# Altium footprint library Modules.PcbLib: 14 footprints (part 2 of 6)
Each footprint in its own frame and in the unit in brackets; x right, y up, seen from the top. Pads: shape width x height; smd on the part's side, far side on the other; paste and mask are expansions set on the pad; w line width, h text height; cw(c..) or ccw(c..) is an arc to the next point about the centre after c.
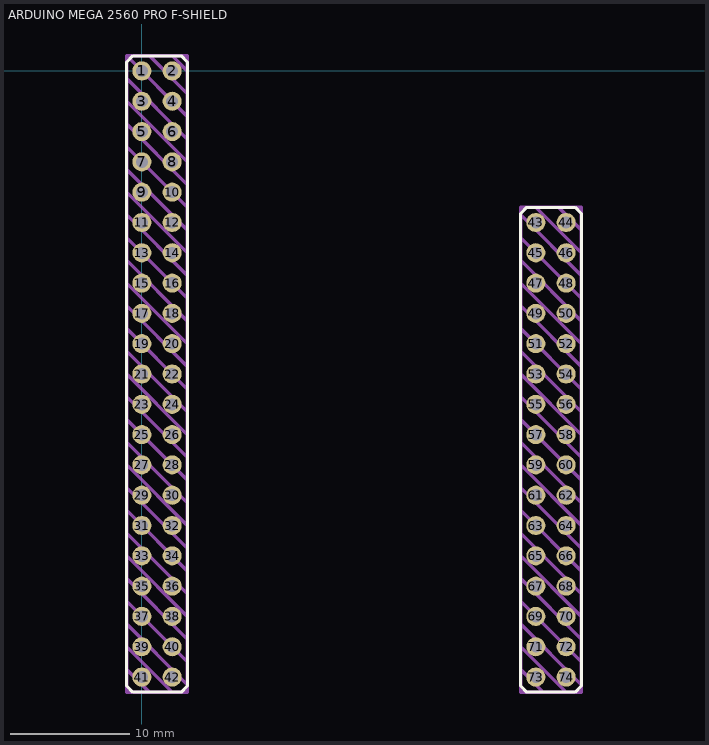
[diagram p1: the footprint, top view; thin cyan lines are the x and y axes]

## ARDUINO MEGA 2560 PRO F-SHIELD [mm]
pads (74):
  round 1.6 hole 1: 1(0,0) 2(2.54,0) 3(0,-2.54) 4(2.54,-2.54) 5(0,-5.08) 6(2.54,-5.08) 7(0,-7.62) 8(2.54,-7.62) 9(0,-10.16) 10(2.54,-10.16) 11(0,-12.7) 12(2.54,-12.7) 13(0,-15.24) 14(2.54,-15.24) 15(0,-17.78) 16(2.54,-17.78) 17(0,-20.32) 18(2.54,-20.32) 19(0,-22.86) 20(2.54,-22.86) 21(0,-25.4) 22(2.54,-25.4) 23(0,-27.94) 24(2.54,-27.94) 25(0,-30.48) 26(2.54,-30.48) 27(0,-33.02) 28(2.54,-33.02) 29(0,-35.56) 30(2.54,-35.56) 31(0,-38.1) 32(2.54,-38.1) 33(0,-40.64) 34(2.54,-40.64) 35(0,-43.18) 36(2.54,-43.18) 37(0,-45.72) 38(2.54,-45.72) 39(0,-48.26) 40(2.54,-48.26) 41(0,-50.8) 42(2.54,-50.8) 43(33.02,-12.7) 44(35.56,-12.7) 45(33.02,-15.24) 46(35.56,-15.24) 47(33.02,-17.78) 48(35.56,-17.78) 49(33.02,-20.32) 50(35.56,-20.32) 51(33.02,-22.86) 52(35.56,-22.86) 53(33.02,-25.4) 54(35.56,-25.4) 55(33.02,-27.94) 56(35.56,-27.94) 57(33.02,-30.48) 58(35.56,-30.48) 59(33.02,-33.02) 60(35.56,-33.02) 61(33.02,-35.56) 62(35.56,-35.56) 63(33.02,-38.1) 64(35.56,-38.1) 65(33.02,-40.64) 66(35.56,-40.64) 67(33.02,-43.18) 68(35.56,-43.18) 69(33.02,-45.72) 70(35.56,-45.72) 71(33.02,-48.26) 72(35.56,-48.26) 73(33.02,-50.8) 74(35.56,-50.8)
Top Overlay:
  lines w0.25: -1.27,-51.562 -1.27,0.762 -0.762,1.27 3.302,1.27 3.81,0.762 3.81,-51.562 3.302,-52.07 -0.762,-52.07 -1.27,-51.562 ; 31.75,-51.562 32.258,-52.07 36.322,-52.07 36.83,-51.562 36.83,-11.938 36.322,-11.43 32.258,-11.43 31.75,-11.938 31.75,-51.562
Top Draw:
  lines w0.3: -1.27,-50.165 0.635,-52.07 ; -1.27,-48.26 2.54,-52.07 ; -1.27,-46.355 3.81,-51.435 ; -1.27,-44.45 3.81,-49.53 ; -1.27,-42.545 3.81,-47.625 ; -1.27,-40.64 3.81,-45.72 ; -1.27,-38.735 3.81,-43.815 ; -1.27,-36.83 3.81,-41.91 ; -1.27,-34.925 3.81,-40.005 ; -1.27,-33.02 3.81,-38.1 ; -1.27,-31.115 3.81,-36.195 ; -1.27,-29.21 3.81,-34.29 ; -1.27,-27.305 3.81,-32.385 ; -1.27,-25.4 3.81,-30.48 ; -1.27,-23.495 3.81,-28.575 ; -1.27,-21.59 3.81,-26.67 ; -1.27,-19.685 3.81,-24.765 ; -1.27,-17.78 3.81,-22.86 ; -1.27,-15.875 3.81,-20.955 ; -1.27,-13.97 3.81,-19.05 ; -1.27,-12.065 3.81,-17.145 ; -1.27,-10.16 3.81,-15.24 ; -1.27,-8.255 3.81,-13.335 ; -1.27,-6.35 3.81,-11.43 ; -1.27,-4.445 3.81,-9.525 ; -1.27,-2.54 3.81,-7.62 ; -1.27,-0.635 3.81,-5.715 ; 0.635,1.27 3.81,-1.905 ; 2.54,1.27 3.81,0 ; 3.81,-3.81 -1.27,1.27 ; 31.75,-50.165 33.655,-52.07 ; 31.75,-48.26 35.56,-52.07 ; 31.75,-46.355 36.83,-51.435 ; 31.75,-44.45 36.83,-49.53 ; 31.75,-42.545 36.83,-47.625 ; 31.75,-40.64 36.83,-45.72 ; 31.75,-38.735 36.83,-43.815 ; 31.75,-36.83 36.83,-41.91 ; 31.75,-34.925 36.83,-40.005 ; 31.75,-33.02 36.83,-38.1 ; 31.75,-31.115 36.83,-36.195 ; 31.75,-29.21 36.83,-34.29 ; 31.75,-27.305 36.83,-32.385 ; 31.75,-25.4 36.83,-30.48 ; 31.75,-23.495 36.83,-28.575 ; 31.75,-21.59 36.83,-26.67 ; 31.75,-19.685 36.83,-24.765 ; 31.75,-17.78 36.83,-22.86 ; 31.75,-15.875 36.83,-20.955 ; 31.75,-13.97 36.83,-19.05 ; 31.75,-12.065 36.83,-17.145 ; 33.02,-11.43 36.83,-15.24 ; 34.925,-11.43 36.83,-13.335 ; -1.27,1.27 -1.27,-52.07 3.81,-52.07 3.81,1.27 -1.27,1.27 ; 31.75,-52.07 31.75,-11.43 36.83,-11.43 36.83,-52.07 31.75,-52.07
3D body: height 8, standoff -2.5, extent 2.215,-2.865 2.865,-2.215
3D body "呐劳.000001.01.01.stp": height -2.5, standoff -3, extent -0.325,-51.124 0.325,-50.474
3D body: height 2, standoff 1.95, extent -0.889,-49.656 -0.635,-49.402
3D body: height 8, standoff -2.5, extent 2.215,-5.405 2.865,-4.755
3D body: height 2, standoff 1.95, extent 3.175,-11.557 3.429,-11.303
3D body "呐劳.000001.01.01.stp": height 8.5, standoff 8, extent -0.325,-51.124 0.325,-50.474
3D body: height 8, standoff -2.5, extent 2.215,-13.024 2.865,-12.374
3D body: height 2, standoff 1.95, extent 3.175,-9.017 3.429,-8.762
3D body: height 8, standoff -2.5, extent 2.215,-10.485 2.865,-9.835
3D body "呐劳.000001.01.01.stp": height -2.5, standoff -3, extent 2.215,-0.325 2.865,0.325
3D body: height 8, standoff -2.5, extent 2.215,-0.325 2.865,0.325
3D body: height 2, standoff 1.95, extent 3.175,-1.397 3.429,-1.143
3D body: height 8, standoff -2.5, extent -0.325,-51.124 0.325,-50.474
3D body: height 2, standoff 1.95, extent 3.175,-6.477 3.429,-6.223
3D body "呐劳.000001.01.01.stp": height -2.5, standoff -3, extent 2.215,-5.405 2.865,-4.755
3D body: height 1.95, standoff 0, extent -0.889,-49.657 3.429,-49.402
3D body: height 2, standoff 1.95, extent 3.175,-3.937 3.429,-3.683
3D body: height 8, standoff -2.5, extent 2.215,-7.944 2.865,-7.294
3D body "呐劳.000001.01.01.stp": height -2.5, standoff -3, extent 2.215,-33.344 2.865,-32.694
3D body "呐劳.000001.01.01.stp": height 8.5, standoff 8, extent 2.215,-35.884 2.865,-35.234
3D body: height 2, standoff 1.95, extent 3.175,-31.877 3.429,-31.623
3D body: height 2, standoff 0, extent -1.27,-34.163 3.81,-31.877
3D body: height 1.95, standoff 0, extent -0.889,-19.177 3.429,-18.922
3D body "呐劳.000001.01.01.stp": height 8.5, standoff 8, extent 2.215,-33.344 2.865,-32.694
3D body: height 8, standoff -2.5, extent 2.215,-35.884 2.865,-35.234
3D body "呐劳.000001.01.01.stp": height -2.5, standoff -3, extent 2.215,-30.805 2.865,-30.155
3D body: height 2, standoff 1.95, extent 3.175,-34.417 3.429,-34.162
3D body: height 8, standoff -2.5, extent 2.215,-33.344 2.865,-32.694
3D body: height 8, standoff -2.5, extent -0.325,-20.645 0.325,-19.995
3D body "呐劳.000001.01.01.stp": height -2.5, standoff -3, extent 2.215,-35.884 2.865,-35.234
3D body "呐劳.000001.01.01.stp": height 8.5, standoff 8, extent 2.215,-30.805 2.865,-30.155
3D body "呐劳.000001.01.01.stp": height -2.5, standoff -3, extent -0.325,-20.645 0.325,-19.995
3D body: height 8, standoff -2.5, extent 2.215,-30.805 2.865,-30.155
3D body "呐劳.000001.01.01.stp": height 8.5, standoff 8, extent -0.325,-20.645 0.325,-19.995
3D body: height 2, standoff 1.95, extent 3.175,-29.336 3.429,-29.082
3D body "呐劳.000001.01.01.stp": height -2.5, standoff -3, extent -0.325,-5.405 0.325,-4.755
3D body: height 1.95, standoff 0, extent -0.889,-16.637 3.429,-16.382
3D body "呐劳.000001.01.01.stp": height 8.5, standoff 8, extent -0.325,-7.945 0.325,-7.295
3D body: height 2, standoff 1.95, extent -0.889,-11.557 -0.635,-11.302
3D body "呐劳.000001.01.01.stp": height -2.5, standoff -3, extent -0.325,-13.025 0.325,-12.375
3D body "呐劳.000001.01.01.stp": height -2.5, standoff -3, extent -0.325,-10.485 0.325,-9.835
3D body "呐劳.000001.01.01.stp": height -2.5, standoff -3, extent -0.325,-15.565 0.325,-14.915
3D body "呐劳.000001.01.01.stp": height 8.5, standoff 8, extent -0.325,-0.325 0.325,0.325
3D body: height 8, standoff -2.5, extent -0.325,-13.025 0.325,-12.375
3D body "呐劳.000001.01.01.stp": height 8.5, standoff 8, extent -0.325,-18.105 0.325,-17.455
3D body: height 2, standoff 1.95, extent -0.889,-19.176 -0.635,-18.922
3D body: height 8, standoff -2.5, extent -0.325,-18.105 0.325,-17.455
3D body: height 2, standoff 1.95, extent -0.889,-6.477 -0.635,-6.222
3D body "呐劳.000001.01.01.stp": height 8.5, standoff 8, extent -0.325,-15.565 0.325,-14.915
3D body: height 2, standoff 0, extent -1.27,-18.922 3.81,-16.636
3D body: height 8, standoff -2.5, extent 35.235,-13.025 35.885,-12.375
3D body "呐劳.000001.01.01.stp": height -2.5, standoff -3, extent 35.235,-13.025 35.885,-12.375
3D body "呐劳.000001.01.01.stp": height 8.5, standoff 8, extent -0.325,-10.485 0.325,-9.835
3D body: height 2, standoff 1.95, extent -0.889,-1.397 -0.635,-1.143
3D body: height 8, standoff -2.5, extent -0.325,-15.565 0.325,-14.915
3D body "呐劳.000001.01.01.stp": height 8.5, standoff 8, extent -0.325,-13.025 0.325,-12.375
3D body: height 2, standoff 0, extent -1.27,-16.383 3.81,-14.097
3D body: height 2, standoff 1.95, extent -0.889,-16.637 -0.635,-16.382
3D body "呐劳.000001.01.01.stp": height 8.5, standoff 8, extent -0.325,-2.865 0.325,-2.215
3D body "呐劳.000001.01.01.stp": height 8.5, standoff 8, extent -0.325,-5.405 0.325,-4.755
3D body: height 2, standoff 1.95, extent -0.889,-3.937 -0.635,-3.682
3D body: height 1.95, standoff 0, extent -0.889,-14.097 3.429,-13.842
3D body "呐劳.000001.01.01.stp": height -2.5, standoff -3, extent -0.325,-18.105 0.325,-17.455
3D body: height 2, standoff 1.95, extent -0.889,-9.017 -0.635,-8.762
3D body: height 2, standoff 1.95, extent -0.889,-14.097 -0.635,-13.842
3D body "呐劳.000001.01.01.stp": height -2.5, standoff -3, extent 2.215,-13.024 2.865,-12.374
3D body: height 1.95, standoff 0, extent -0.889,-9.017 3.429,-8.762
3D body: height 1.95, standoff 0, extent -0.889,-6.478 3.429,-6.223
3D body: height 1.95, standoff 0, extent -0.889,-11.558 3.429,-11.303
3D body: height 2, standoff 0, extent -1.27,-6.223 3.81,-3.937
3D body: height 1.95, standoff 0, extent -0.889,-3.938 3.429,-3.683
3D body "呐劳.000001.01.01.stp": height 8.5, standoff 8, extent 2.215,-13.024 2.865,-12.374
3D body "呐劳.000001.01.01.stp": height 8.5, standoff 8, extent 2.215,-5.405 2.865,-4.755
3D body: height 8, standoff -2.5, extent -0.325,-7.945 0.325,-7.295
3D body: height 1.95, standoff 0, extent -0.889,-1.398 3.429,-1.143
3D body: height 2, standoff 0, extent -1.27,-13.843 3.81,-11.557
3D body: height 8, standoff -2.5, extent -0.325,-2.865 0.325,-2.215
3D body: height 8, standoff -2.5, extent -0.325,-5.405 0.325,-4.755
3D body "呐劳.000001.01.01.stp": height 8.5, standoff 8, extent 2.215,-0.325 2.865,0.325
3D body "呐劳.000001.01.01.stp": height 8.5, standoff 8, extent 2.215,-10.485 2.865,-9.835
3D body "呐劳.000001.01.01.stp": height -2.5, standoff -3, extent 2.215,-18.104 2.865,-17.454
3D body "呐劳.000001.01.01.stp": height 8.5, standoff 8, extent 2.215,-2.865 2.865,-2.215
3D body: height 8, standoff -2.5, extent -0.325,-0.325 0.325,0.325
3D body "呐劳.000001.01.01.stp": height 8.5, standoff 8, extent 2.215,-18.104 2.865,-17.454
3D body "呐劳.000001.01.01.stp": height -2.5, standoff -3, extent 2.215,-7.944 2.865,-7.294
3D body "呐劳.000001.01.01.stp": height -2.5, standoff -3, extent -0.325,-7.945 0.325,-7.295
3D body: height 2, standoff 0, extent -1.27,-11.303 3.81,-9.017
3D body: height 2, standoff 0, extent -1.27,-3.683 3.81,-1.397
3D body "呐劳.000001.01.01.stp": height 8.5, standoff 8, extent 2.215,-7.944 2.865,-7.294
3D body "呐劳.000001.01.01.stp": height 8.5, standoff 8, extent 2.215,-15.565 2.865,-14.915
3D body: height 8, standoff -2.5, extent -0.325,-10.485 0.325,-9.835
3D body: height 2, standoff 0, extent -1.27,-8.763 3.81,-6.477
3D body: height 8, standoff -2.5, extent 2.215,-18.104 2.865,-17.454
3D body "呐劳.000001.01.01.stp": height -2.5, standoff -3, extent -0.325,-2.865 0.325,-2.215
3D body: height 2, standoff 1.95, extent 3.175,-19.176 3.429,-18.922
3D body: height 2, standoff 1.95, extent 3.175,-14.097 3.429,-13.842
3D body "呐劳.000001.01.01.stp": height -2.5, standoff -3, extent 2.215,-15.565 2.865,-14.915
3D body: height 2, standoff 0, extent -1.27,-1.143 3.81,1.143
3D body: height 2, standoff 1.95, extent 3.175,-16.637 3.429,-16.382
3D body "呐劳.000001.01.01.stp": height -2.5, standoff -3, extent 2.215,-10.485 2.865,-9.835
3D body "呐劳.000001.01.01.stp": height -2.5, standoff -3, extent 2.215,-2.865 2.865,-2.215
3D body: height 8, standoff -2.5, extent 2.215,-15.565 2.865,-14.915
3D body "呐劳.000001.01.01.stp": height -2.5, standoff -3, extent -0.325,-0.325 0.325,0.325
3D body "呐劳.000001.01.01.stp": height -2.5, standoff -3, extent -0.325,-30.805 0.325,-30.155
3D body: height 2, standoff 1.95, extent -0.889,-34.417 -0.635,-34.162
3D body: height 8, standoff -2.5, extent -0.325,-25.725 0.325,-25.075
3D body "呐劳.000001.01.01.stp": height -2.5, standoff -3, extent -0.325,-33.345 0.325,-32.695
3D body: height 1.95, standoff 0, extent -0.889,-34.417 3.429,-34.162
3D body: height 2, standoff 0, extent -1.27,-31.623 3.81,-29.337
3D body: height 2, standoff 0, extent -1.27,-36.703 3.81,-34.417
3D body "呐劳.000001.01.01.stp": height 8.5, standoff 8, extent -0.325,-30.805 0.325,-30.155
3D body "呐劳.000001.01.01.stp": height 8.5, standoff 8, extent -0.325,-23.184 0.325,-22.534
3D body: height 8, standoff -2.5, extent -0.325,-30.805 0.325,-30.155
3D body: height 1.95, standoff 0, extent -0.889,-24.257 3.429,-24.002
3D body "呐劳.000001.01.01.stp": height -2.5, standoff -3, extent -0.325,-25.725 0.325,-25.075
3D body: height 2, standoff 1.95, extent -0.889,-26.796 -0.635,-26.542
3D body: height 2, standoff 1.95, extent -0.889,-24.256 -0.635,-24.002
3D body: height 8, standoff -2.5, extent -0.325,-28.264 0.325,-27.614
3D body "呐劳.000001.01.01.stp": height 8.5, standoff 8, extent -0.325,-28.264 0.325,-27.614
3D body: height 8, standoff -2.5, extent -0.325,-23.184 0.325,-22.534
3D body "呐劳.000001.01.01.stp": height -2.5, standoff -3, extent -0.325,-28.264 0.325,-27.614
3D body: height 2, standoff 1.95, extent -0.889,-29.336 -0.635,-29.082
3D body: height 1.95, standoff 0, extent -0.889,-21.717 3.429,-21.462
3D body: height 2, standoff 1.95, extent -0.889,-21.717 -0.635,-21.462
3D body "呐劳.000001.01.01.stp": height -2.5, standoff -3, extent -0.325,-23.184 0.325,-22.534
3D body "呐劳.000001.01.01.stp": height 8.5, standoff 8, extent -0.325,-33.345 0.325,-32.695
3D body: height 1.95, standoff 0, extent -0.889,-26.797 3.429,-26.542
3D body: height 1.95, standoff 0, extent -0.889,-31.878 3.429,-31.623
3D body "呐劳.000001.01.01.stp": height 8.5, standoff 8, extent -0.325,-25.725 0.325,-25.075
3D body: height 8, standoff -2.5, extent -0.325,-33.345 0.325,-32.695
3D body: height 2, standoff 1.95, extent -0.889,-31.877 -0.635,-31.622
3D body: height 1.95, standoff 0, extent -0.889,-29.337 3.429,-29.082
3D body: height 2, standoff 1.95, extent 36.195,-49.656 36.449,-49.402
3D body: height 2, standoff 0, extent 31.75,-49.402 36.83,-47.116
3D body: height 8, standoff -2.5, extent 35.235,-48.584 35.885,-47.934
3D body "呐劳.000001.01.01.stp": height 8.5, standoff 8, extent 35.235,-51.124 35.885,-50.474
3D body "呐劳.000001.01.01.stp": height -2.5, standoff -3, extent 35.235,-51.124 35.885,-50.474
3D body: height 2, standoff 1.95, extent 36.195,-47.117 36.449,-46.862
3D body: height 2, standoff 0, extent 31.75,-46.863 36.83,-44.577
3D body: height 8, standoff -2.5, extent 35.235,-51.124 35.885,-50.474
3D body "呐劳.000001.01.01.stp": height -2.5, standoff -3, extent 35.235,-48.584 35.885,-47.934
3D body: height 8, standoff -2.5, extent 32.695,-35.885 33.345,-35.235
3D body "呐劳.000001.01.01.stp": height 8.5, standoff 8, extent 35.235,-46.044 35.885,-45.394
3D body "呐劳.000001.01.01.stp": height -2.5, standoff -3, extent 35.235,-46.044 35.885,-45.394
3D body: height 2, standoff 0, extent 31.75,-51.942 36.83,-49.656
3D body "呐劳.000001.01.01.stp": height 8.5, standoff 8, extent 35.235,-48.584 35.885,-47.934
3D body: height 2, standoff 1.95, extent 36.195,-44.577 36.449,-44.322
3D body "呐劳.000001.01.01.stp": height -2.5, standoff -3, extent 32.695,-35.885 33.345,-35.235
3D body: height 8, standoff -2.5, extent 35.235,-46.044 35.885,-45.394
3D body: height 8, standoff -2.5, extent 2.215,-28.264 2.865,-27.614
3D body "呐劳.000001.01.01.stp": height 8.5, standoff 8, extent 2.215,-25.724 2.865,-25.074
3D body: height 8, standoff -2.5, extent 2.215,-23.184 2.865,-22.534
3D body "呐劳.000001.01.01.stp": height -2.5, standoff -3, extent 2.215,-25.724 2.865,-25.074
3D body "呐劳.000001.01.01.stp": height 8.5, standoff 8, extent 2.215,-28.264 2.865,-27.614
3D body: height 2, standoff 0, extent -1.27,-24.002 3.81,-21.716
3D body: height 2, standoff 0, extent -1.27,-26.542 3.81,-24.256
3D body: height 2, standoff 1.95, extent 3.175,-24.256 3.429,-24.002
3D body "呐劳.000001.01.01.stp": height -2.5, standoff -3, extent 2.215,-20.644 2.865,-19.994
3D body "呐劳.000001.01.01.stp": height -2.5, standoff -3, extent 2.215,-23.184 2.865,-22.534
3D body: height 2, standoff 1.95, extent 3.175,-21.717 3.429,-21.462
3D body "呐劳.000001.01.01.stp": height 8.5, standoff 8, extent 2.215,-20.644 2.865,-19.994
3D body: height 8, standoff -2.5, extent 2.215,-25.724 2.865,-25.074
3D body: height 2, standoff 0, extent -1.27,-21.463 3.81,-19.177
3D body: height 2, standoff 1.95, extent 3.175,-26.796 3.429,-26.542
3D body: height 2, standoff 0, extent -1.27,-29.082 3.81,-26.796
3D body "呐劳.000001.01.01.stp": height 8.5, standoff 8, extent 2.215,-23.184 2.865,-22.534
3D body "呐劳.000001.01.01.stp": height -2.5, standoff -3, extent 2.215,-28.264 2.865,-27.614
3D body: height 8, standoff -2.5, extent 2.215,-20.644 2.865,-19.994
3D body "呐劳.000001.01.01.stp": height -2.5, standoff -3, extent 32.695,-43.505 33.345,-42.855
3D body: height 2, standoff 1.95, extent 32.131,-44.577 32.385,-44.322
3D body: height 2, standoff 1.95, extent 32.131,-39.497 32.385,-39.242
3D body "呐劳.000001.01.01.stp": height -2.5, standoff -3, extent 32.695,-38.425 33.345,-37.775
3D body "呐劳.000001.01.01.stp": height 8.5, standoff 8, extent 32.695,-38.425 33.345,-37.775
3D body "呐劳.000001.01.01.stp": height 8.5, standoff 8, extent 32.695,-43.505 33.345,-42.855
3D body: height 2, standoff 1.95, extent 32.131,-36.957 32.385,-36.702
3D body "呐劳.000001.01.01.stp": height 8.5, standoff 8, extent 32.695,-35.885 33.345,-35.235
3D body "呐劳.000001.01.01.stp": height 8.5, standoff 8, extent 32.695,-46.044 33.345,-45.394
3D body: height 8, standoff -2.5, extent 32.695,-38.425 33.345,-37.775
3D body: height 1.95, standoff 0, extent 32.131,-36.958 36.449,-36.703
3D body "呐劳.000001.01.01.stp": height -2.5, standoff -3, extent 32.695,-46.044 33.345,-45.394
3D body: height 1.95, standoff 0, extent 32.131,-44.577 36.449,-44.322
3D body: height 2, standoff 1.95, extent 32.131,-42.037 32.385,-41.782
3D body: height 8, standoff -2.5, extent 32.695,-46.044 33.345,-45.394
3D body: height 1.95, standoff 0, extent 32.131,-47.117 36.449,-46.862
3D body "呐劳.000001.01.01.stp": height -2.5, standoff -3, extent 32.695,-48.585 33.345,-47.935
3D body: height 8, standoff -2.5, extent 32.695,-48.585 33.345,-47.935
3D body: height 8, standoff -2.5, extent 32.695,-43.505 33.345,-42.855
3D body "呐劳.000001.01.01.stp": height -2.5, standoff -3, extent 32.695,-40.965 33.345,-40.315
3D body "呐劳.000001.01.01.stp": height 8.5, standoff 8, extent 32.695,-48.585 33.345,-47.935
3D body: height 2, standoff 1.95, extent 32.131,-47.117 32.385,-46.862
3D body: height 1.95, standoff 0, extent 32.131,-42.038 36.449,-41.783
3D body: height 8, standoff -2.5, extent 32.695,-40.965 33.345,-40.315
3D body "呐劳.000001.01.01.stp": height 8.5, standoff 8, extent 32.695,-40.965 33.345,-40.315
3D body: height 8, standoff -2.5, extent 32.695,-51.124 33.345,-50.474
3D body: height 2, standoff 1.95, extent 32.131,-49.656 32.385,-49.402
3D body: height 1.95, standoff 0, extent 32.131,-49.657 36.449,-49.402
3D body "呐劳.000001.01.01.stp": height 8.5, standoff 8, extent 32.695,-51.124 33.345,-50.474
3D body "呐劳.000001.01.01.stp": height -2.5, standoff -3, extent 32.695,-51.124 33.345,-50.474
3D body: height 2, standoff 1.95, extent 32.131,-19.177 32.385,-18.922
3D body: height 8, standoff -2.5, extent 35.235,-23.184 35.885,-22.534
3D body "呐劳.000001.01.01.stp": height -2.5, standoff -3, extent 35.235,-23.184 35.885,-22.534
3D body "呐劳.000001.01.01.stp": height 8.5, standoff 8, extent 35.235,-23.184 35.885,-22.534
3D body: height 2, standoff 1.95, extent 36.195,-24.257 36.449,-24.002
3D body: height 8, standoff -2.5, extent 35.235,-20.645 35.885,-19.995
3D body "呐劳.000001.01.01.stp": height -2.5, standoff -3, extent 35.235,-20.645 35.885,-19.995
3D body: height 2, standoff 1.95, extent 36.195,-21.717 36.449,-21.463
3D body: height 2, standoff 1.95, extent 32.131,-14.097 32.385,-13.842
3D body: height 2, standoff 0, extent 31.75,-21.463 36.83,-19.177
3D body "呐劳.000001.01.01.stp": height 8.5, standoff 8, extent 35.235,-20.645 35.885,-19.995
3D body: height 2, standoff 1.95, extent 32.131,-16.637 32.385,-16.382
3D body: height 2, standoff 0, extent 31.75,-24.003 36.83,-21.717
3D body: height 1.95, standoff 0, extent -0.889,-47.117 3.429,-46.862
3D body: height 8, standoff -2.5, extent 2.215,-40.964 2.865,-40.314
3D body: height 8, standoff -2.5, extent -0.325,-43.504 0.325,-42.854
3D body "呐劳.000001.01.01.stp": height -2.5, standoff -3, extent 2.215,-40.964 2.865,-40.314
3D body "呐劳.000001.01.01.stp": height 8.5, standoff 8, extent 2.215,-38.424 2.865,-37.774
3D body "呐劳.000001.01.01.stp": height 8.5, standoff 8, extent 2.215,-40.964 2.865,-40.314
3D body "呐劳.000001.01.01.stp": height 8.5, standoff 8, extent 2.215,-48.584 2.865,-47.934
3D body: height 2, standoff 0, extent -1.27,-41.783 3.81,-39.497
3D body "呐劳.000001.01.01.stp": height -2.5, standoff -3, extent -0.325,-38.424 0.325,-37.774
3D body: height 8, standoff -2.5, extent -0.325,-48.584 0.325,-47.934
3D body "呐劳.000001.01.01.stp": height 8.5, standoff 8, extent 2.215,-46.044 2.865,-45.394
3D body: height 2, standoff 1.95, extent 3.175,-44.576 3.429,-44.322
3D body: height 2, standoff 1.95, extent -0.889,-39.496 -0.635,-39.242
3D body: height 2, standoff 0, extent -1.27,-46.862 3.81,-44.576
3D body "呐劳.000001.01.01.stp": height 8.5, standoff 8, extent -0.325,-40.965 0.325,-40.315
3D body: height 2, standoff 1.95, extent -0.889,-44.576 -0.635,-44.322
3D body "呐劳.000001.01.01.stp": height -2.5, standoff -3, extent 2.215,-43.504 2.865,-42.854
3D body: height 2, standoff 1.95, extent -0.889,-36.957 -0.635,-36.702
3D body "呐劳.000001.01.01.stp": height 8.5, standoff 8, extent -0.325,-35.885 0.325,-35.235
3D body: height 2, standoff 1.95, extent 3.175,-42.037 3.429,-41.782
3D body: height 8, standoff -2.5, extent -0.325,-35.885 0.325,-35.235
3D body: height 8, standoff -2.5, extent 2.215,-43.504 2.865,-42.854
3D body: height 2, standoff 0, extent -1.27,-51.942 3.81,-49.656
3D body "呐劳.000001.01.01.stp": height -2.5, standoff -3, extent -0.325,-46.044 0.325,-45.394
3D body "呐劳.000001.01.01.stp": height -2.5, standoff -3, extent 2.215,-48.584 2.865,-47.934
3D body "呐劳.000001.01.01.stp": height 8.5, standoff 8, extent -0.325,-38.424 0.325,-37.774
3D body: height 2, standoff 1.95, extent 3.175,-39.496 3.429,-39.242
3D body: height 8, standoff -2.5, extent 2.215,-46.044 2.865,-45.394
3D body: height 8, standoff -2.5, extent -0.325,-46.044 0.325,-45.394
3D body "呐劳.000001.01.01.stp": height 8.5, standoff 8, extent -0.325,-46.044 0.325,-45.394
3D body "呐劳.000001.01.01.stp": height -2.5, standoff -3, extent 2.215,-38.424 2.865,-37.774
3D body: height 8, standoff -2.5, extent -0.325,-40.965 0.325,-40.315
3D body "呐劳.000001.01.01.stp": height 8.5, standoff 8, extent 2.215,-43.504 2.865,-42.854
3D body: height 8, standoff -2.5, extent -0.325,-38.424 0.325,-37.774
3D body: height 2, standoff 0, extent -1.27,-39.242 3.81,-36.956
3D body "呐劳.000001.01.01.stp": height -2.5, standoff -3, extent -0.325,-40.965 0.325,-40.315
3D body "呐劳.000001.01.01.stp": height -2.5, standoff -3, extent 2.215,-51.124 2.865,-50.474
3D body "呐劳.000001.01.01.stp": height -2.5, standoff -3, extent -0.325,-35.885 0.325,-35.235
3D body: height 2, standoff 1.95, extent 3.175,-36.957 3.429,-36.702
3D body: height 2, standoff 0, extent -1.27,-49.402 3.81,-47.116
3D body "呐劳.000001.01.01.stp": height 8.5, standoff 8, extent -0.325,-48.584 0.325,-47.934
3D body "呐劳.000001.01.01.stp": height 8.5, standoff 8, extent -0.325,-43.504 0.325,-42.854
3D body "呐劳.000001.01.01.stp": height -2.5, standoff -3, extent -0.325,-43.504 0.325,-42.854
3D body: height 1.95, standoff 0, extent -0.889,-42.037 3.429,-41.782
3D body: height 2, standoff 1.95, extent -0.889,-42.037 -0.635,-41.782
3D body: height 2, standoff 1.95, extent 3.175,-49.656 3.429,-49.402
3D body: height 2, standoff 0, extent -1.27,-44.322 3.81,-42.036
3D body: height 8, standoff -2.5, extent 2.215,-51.124 2.865,-50.474
3D body: height 1.95, standoff 0, extent -0.889,-39.497 3.429,-39.242
3D body "呐劳.000001.01.01.stp": height -2.5, standoff -3, extent -0.325,-48.584 0.325,-47.934
3D body "呐劳.000001.01.01.stp": height -2.5, standoff -3, extent 2.215,-46.044 2.865,-45.394
3D body: height 8, standoff -2.5, extent 2.215,-38.424 2.865,-37.774
3D body: height 1.95, standoff 0, extent -0.889,-36.957 3.429,-36.702
3D body "呐劳.000001.01.01.stp": height 8.5, standoff 8, extent 2.215,-51.124 2.865,-50.474
3D body: height 1.95, standoff 0, extent -0.889,-44.577 3.429,-44.322
3D body: height 2, standoff 1.95, extent 3.175,-47.116 3.429,-46.862
3D body: height 2, standoff 1.95, extent -0.889,-47.116 -0.635,-46.862
3D body: height 8, standoff -2.5, extent 2.215,-48.584 2.865,-47.934
3D body: height 8, standoff -2.5, extent 32.695,-28.265 33.345,-27.615
3D body "呐劳.000001.01.01.stp": height -2.5, standoff -3, extent 32.695,-25.725 33.345,-25.075
3D body: height 2, standoff 0, extent 31.75,-31.623 36.83,-29.337
3D body "呐劳.000001.01.01.stp": height -2.5, standoff -3, extent 32.695,-28.265 33.345,-27.615
3D body: height 1.95, standoff 0, extent 32.131,-26.797 36.449,-26.542
3D body: height 2, standoff 0, extent 31.75,-39.243 36.83,-36.957
3D body: height 2, standoff 1.95, extent 32.131,-26.797 32.385,-26.542
3D body "呐劳.000001.01.01.stp": height 8.5, standoff 8, extent 32.695,-28.265 33.345,-27.615
3D body: height 2, standoff 1.95, extent 36.195,-36.957 36.449,-36.703
3D body: height 1.95, standoff 0, extent 32.131,-29.337 36.449,-29.082
3D body: height 8, standoff -2.5, extent 32.695,-25.725 33.345,-25.075
3D body: height 8, standoff -2.5, extent 32.695,-33.345 33.345,-32.695
3D body: height 2, standoff 1.95, extent 32.131,-34.417 32.385,-34.162
3D body: height 1.95, standoff 0, extent 32.131,-31.878 36.449,-31.623
3D body: height 8, standoff -2.5, extent 35.235,-38.424 35.885,-37.774
3D body: height 2, standoff 1.95, extent 36.195,-39.497 36.449,-39.242
3D body "呐劳.000001.01.01.stp": height 8.5, standoff 8, extent 35.235,-38.424 35.885,-37.774
3D body "呐劳.000001.01.01.stp": height -2.5, standoff -3, extent 35.235,-38.424 35.885,-37.774
3D body: height 2, standoff 1.95, extent 32.131,-31.877 32.385,-31.623
3D body: height 2, standoff 0, extent 31.75,-36.703 36.83,-34.417
3D body "呐劳.000001.01.01.stp": height 8.5, standoff 8, extent 32.695,-30.805 33.345,-30.155
3D body "呐劳.000001.01.01.stp": height -2.5, standoff -3, extent 32.695,-30.805 33.345,-30.155
3D body "呐劳.000001.01.01.stp": height 8.5, standoff 8, extent 32.695,-33.345 33.345,-32.695
3D body: height 2, standoff 1.95, extent 32.131,-29.336 32.385,-29.082
3D body: height 8, standoff -2.5, extent 32.695,-30.805 33.345,-30.155
3D body: height 2, standoff 1.95, extent 32.131,-24.257 32.385,-24.002
3D body: height 1.95, standoff 0, extent 32.131,-34.418 36.449,-34.163
3D body: height 1.95, standoff 0, extent 32.131,-24.257 36.449,-24.002
3D body "呐劳.000001.01.01.stp": height -2.5, standoff -3, extent 32.695,-33.345 33.345,-32.695
3D body "呐劳.000001.01.01.stp": height 8.5, standoff 8, extent 32.695,-25.725 33.345,-25.075
3D body "呐劳.000001.01.01.stp": height 8.5, standoff 8, extent 35.235,-40.965 35.885,-40.315
3D body "呐劳.000001.01.01.stp": height 8.5, standoff 8, extent 35.235,-43.504 35.885,-42.854
3D body: height 8, standoff -2.5, extent 35.235,-40.965 35.885,-40.315
3D body "呐劳.000001.01.01.stp": height -2.5, standoff -3, extent 35.235,-43.504 35.885,-42.854
3D body: height 1.95, standoff 0, extent 32.131,-39.497 36.449,-39.242
3D body: height 2, standoff 1.95, extent 36.195,-42.037 36.449,-41.783
3D body: height 2, standoff 0, extent 31.75,-41.783 36.83,-39.497
3D body: height 8, standoff -2.5, extent 35.235,-43.504 35.885,-42.854
3D body "呐劳.000001.01.01.stp": height -2.5, standoff -3, extent 35.235,-40.965 35.885,-40.315
3D body: height 2, standoff 0, extent 31.75,-44.323 36.83,-42.037
3D body "呐劳.000001.01.01.stp": height -2.5, standoff -3, extent 32.695,-13.025 33.345,-12.375
3D body "呐劳.000001.01.01.stp": height -2.5, standoff -3, extent 32.695,-18.105 33.345,-17.455
3D body: height 2, standoff 1.95, extent 36.195,-14.097 36.449,-13.843
3D body "呐劳.000001.01.01.stp": height 8.5, standoff 8, extent 32.695,-13.025 33.345,-12.375
3D body "呐劳.000001.01.01.stp": height 8.5, standoff 8, extent 32.695,-15.565 33.345,-14.915
3D body: height 2, standoff 0, extent 31.75,-16.383 36.83,-14.097
3D body: height 8, standoff -2.5, extent 35.235,-18.105 35.885,-17.455
3D body: height 2, standoff 1.95, extent 36.195,-19.177 36.449,-18.922
3D body "呐劳.000001.01.01.stp": height 8.5, standoff 8, extent 32.695,-18.105 33.345,-17.455
3D body "呐劳.000001.01.01.stp": height -2.5, standoff -3, extent 32.695,-15.565 33.345,-14.915
3D body: height 2, standoff 1.95, extent 36.195,-16.637 36.449,-16.383
3D body "呐劳.000001.01.01.stp": height 8.5, standoff 8, extent 35.235,-18.105 35.885,-17.455
3D body: height 8, standoff -2.5, extent 32.695,-13.025 33.345,-12.375
3D body "呐劳.000001.01.01.stp": height 8.5, standoff 8, extent 35.235,-15.565 35.885,-14.915
3D body: height 2, standoff 0, extent 31.75,-18.923 36.83,-16.637
3D body: height 8, standoff -2.5, extent 32.695,-18.105 33.345,-17.455
3D body "呐劳.000001.01.01.stp": height -2.5, standoff -3, extent 35.235,-15.565 35.885,-14.915
3D body "呐劳.000001.01.01.stp": height -2.5, standoff -3, extent 35.235,-18.105 35.885,-17.455
3D body: height 1.95, standoff 0, extent 32.131,-16.638 36.449,-16.383
3D body: height 2, standoff 0, extent 31.75,-13.843 36.83,-11.557
3D body "呐劳.000001.01.01.stp": height 8.5, standoff 8, extent 35.235,-13.025 35.885,-12.375
3D body: height 8, standoff -2.5, extent 32.695,-15.565 33.345,-14.915
3D body: height 1.95, standoff 0, extent 32.131,-14.098 36.449,-13.843
3D body: height 8, standoff -2.5, extent 35.235,-15.565 35.885,-14.915
3D body: height 2, standoff 0, extent 31.75,-26.543 36.83,-24.257
3D body "呐劳.000001.01.01.stp": height -2.5, standoff -3, extent 35.235,-35.885 35.885,-35.235
3D body: height 2, standoff 1.95, extent 36.195,-26.797 36.449,-26.542
3D body: height 2, standoff 0, extent 31.75,-34.163 36.83,-31.877
3D body: height 1.95, standoff 0, extent 32.131,-21.718 36.449,-21.463
3D body "呐劳.000001.01.01.stp": height -2.5, standoff -3, extent 32.695,-20.645 33.345,-19.995
3D body "呐劳.000001.01.01.stp": height 8.5, standoff 8, extent 35.235,-35.885 35.885,-35.235
3D body "呐劳.000001.01.01.stp": height 8.5, standoff 8, extent 35.235,-25.725 35.885,-25.075
3D body "呐劳.000001.01.01.stp": height 8.5, standoff 8, extent 32.695,-20.645 33.345,-19.995
3D body "呐劳.000001.01.01.stp": height -2.5, standoff -3, extent 35.235,-30.805 35.885,-30.155
3D body: height 8, standoff -2.5, extent 35.235,-33.345 35.885,-32.695
3D body "呐劳.000001.01.01.stp": height 8.5, standoff 8, extent 35.235,-33.345 35.885,-32.695
3D body: height 8, standoff -2.5, extent 32.695,-23.185 33.345,-22.535
3D body "呐劳.000001.01.01.stp": height -2.5, standoff -3, extent 35.235,-33.345 35.885,-32.695
3D body: height 2, standoff 0, extent 31.75,-29.082 36.83,-26.796
3D body: height 8, standoff -2.5, extent 35.235,-30.805 35.885,-30.155
3D body: height 2, standoff 1.95, extent 36.195,-31.877 36.449,-31.623
3D body: height 2, standoff 1.95, extent 32.131,-21.717 32.385,-21.462
3D body: height 8, standoff -2.5, extent 35.235,-28.264 35.885,-27.614
3D body: height 2, standoff 1.95, extent 36.195,-29.336 36.449,-29.082
3D body: height 8, standoff -2.5, extent 35.235,-35.885 35.885,-35.235
3D body: height 1.95, standoff 0, extent 32.131,-19.177 36.449,-18.922
3D body "呐劳.000001.01.01.stp": height -2.5, standoff -3, extent 32.695,-23.185 33.345,-22.535
3D body "呐劳.000001.01.01.stp": height -2.5, standoff -3, extent 35.235,-25.725 35.885,-25.075
3D body: height 2, standoff 1.95, extent 36.195,-34.417 36.449,-34.163
3D body "呐劳.000001.01.01.stp": height 8.5, standoff 8, extent 35.235,-28.264 35.885,-27.614
3D body: height 8, standoff -2.5, extent 35.235,-25.725 35.885,-25.075
3D body: height 8, standoff -2.5, extent 32.695,-20.645 33.345,-19.995
3D body "呐劳.000001.01.01.stp": height 8.5, standoff 8, extent 32.695,-23.185 33.345,-22.535
3D body "呐劳.000001.01.01.stp": height -2.5, standoff -3, extent 35.235,-28.264 35.885,-27.614
3D body "呐劳.000001.01.01.stp": height 8.5, standoff 8, extent 35.235,-30.805 35.885,-30.155